# Altium footprint library 功率检测模块.PcbLib: 15 footprints
Each footprint in its own frame and in the unit in brackets; x right, y up, seen from the top. Pads: shape width x height; smd on the part's side, far side on the other; paste and mask are expansions set on the pad; w line width, h text height; cw(c..) or ccw(c..) is an arc to the next point about the centre after c.
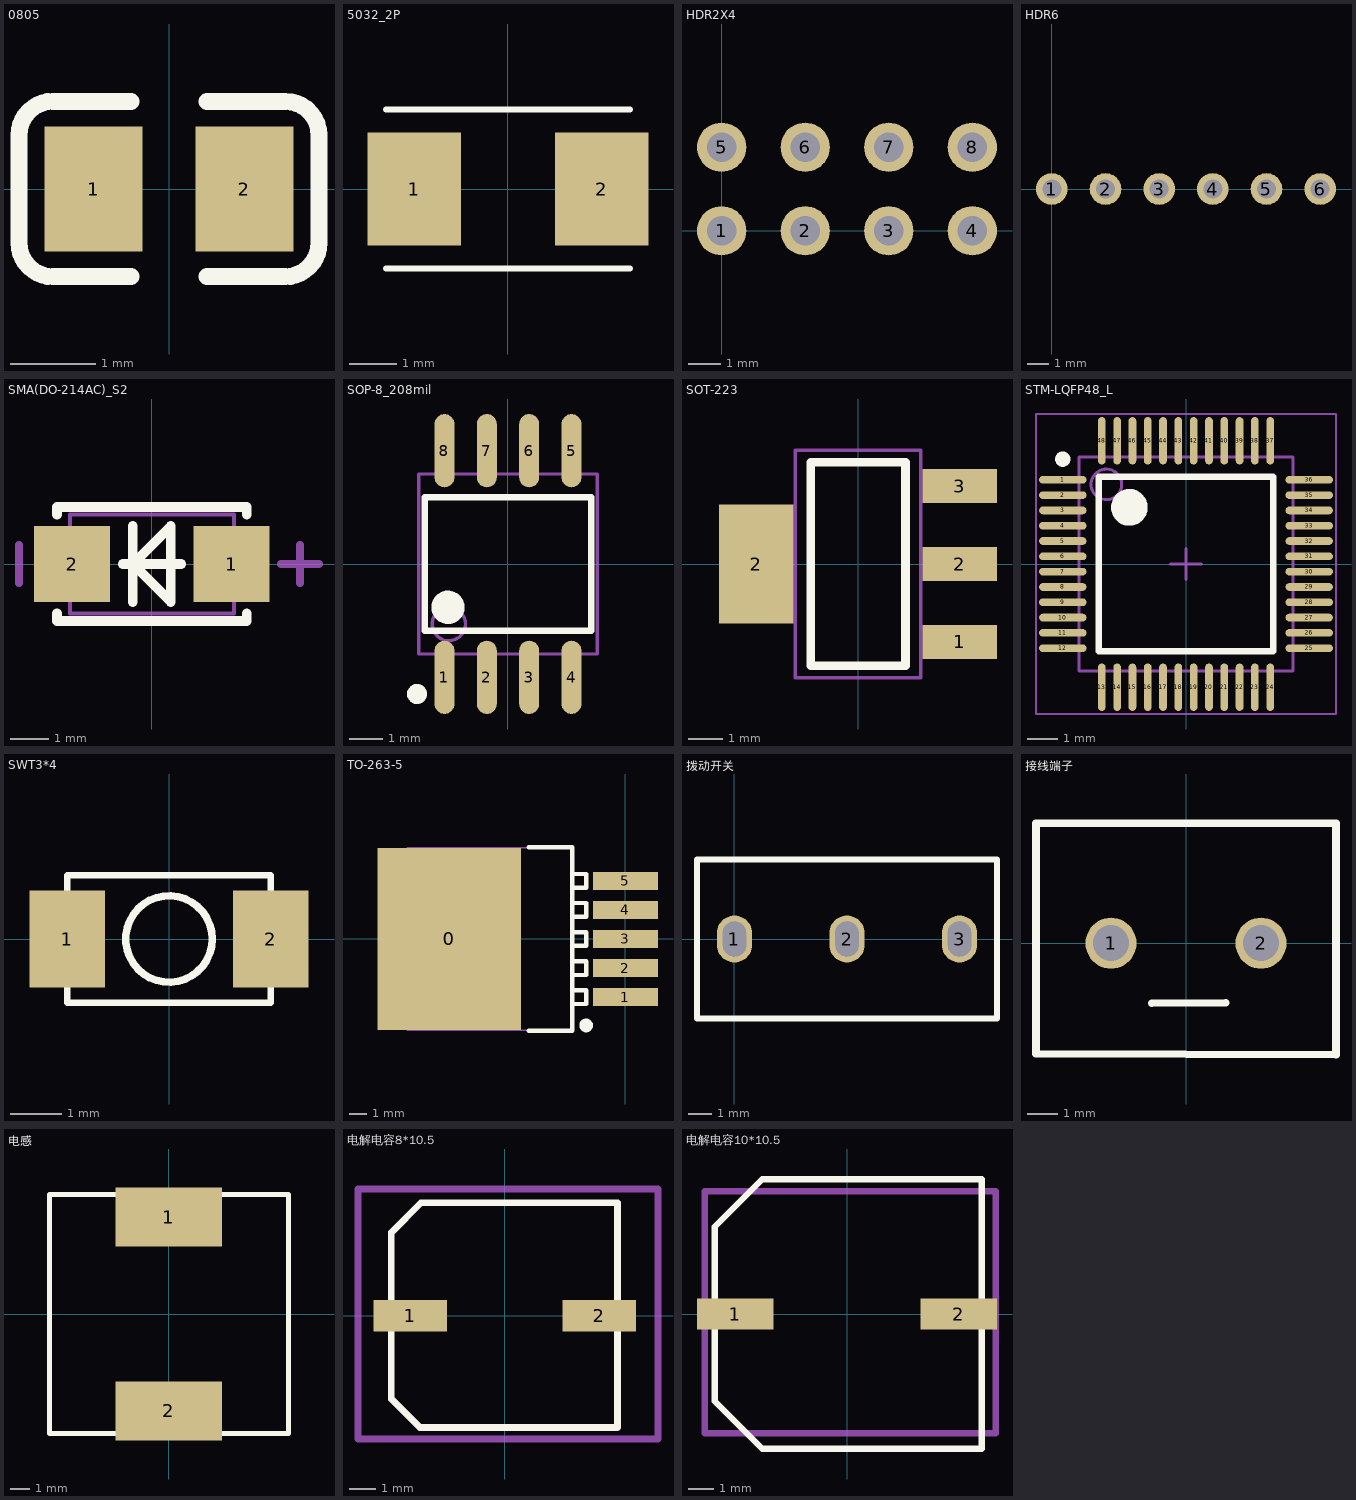
[diagram p0: the footprints below, top view; thin cyan lines are the x and y axes]

## 0805 [mm]
pads (2):
  rect 1.16x1.47 smd: 1(-0.89,0) 2(0.89,0)
Top Overlay:
  lines w0.2: -0.45,-1.035 -1.37,-1.035 cw(c-1.37,-0.635) -1.77,-0.635 -1.77,0.635 cw(c-1.37,0.635) -1.37,1.035 -0.45,1.035 ; 0.45,-1.035 1.37,-1.035 ccw(c1.37,-0.635) 1.77,-0.635 1.77,0.635 ccw(c1.37,0.635) 1.37,1.035 0.45,1.035
3D body "User Library-0805 SMD Capacitor.STEP": height 0.77, standoff -0.01, extent -0.999,-0.625 1.001,0.625

## 5032_2P [mm]
pads (2):
  rect 2x2.4 smd: 1(-2,0) 2(2,0)
Top Overlay:
  lines w0.127: -2.6,-1.7 2.6,-1.7 ; -2.6,1.7 2.6,1.7

## HDR2X4 [mm]
pads (8):
  round 1.5 hole 0.9: 1(0,0) 2(2.54,0) 3(5.08,0) 4(7.62,0) 5(0,2.54) 6(2.54,2.54) 7(5.08,2.54) 8(7.62,2.54)

## HDR6 [mm]
pads (6):
  round 1.5 hole 0.9: 1(0,0) 2(2.54,0) 3(5.08,0) 4(7.62,0) 5(10.16,0) 6(12.7,0)

## SMA(DO-214AC)_S2 [mm]
pads (2):
  rect 2x2 smd: 1(2.1,0) 2(-2.1,0)
Top Overlay:
  lines w0.254: -2.5,-1.3 -2.5,-1.5 2.5,-1.5 2.5,-1.3 ; -2.5,1.3 -2.5,1.5 2.5,1.5 2.5,1.3 ; -0.77,0 0.77,0 ; -0.5,-1 -0.5,1 ; -0.5,0 0.5,1 0.5,-1 -0.5,0
Mechanical 13:
  lines w0.1: -2.16,-1.3 -2.16,1.3 2.16,1.3 2.16,-1.3 -2.16,-1.3
Mechanical 15:
  lines w0.203: -3.5,-0.5 -3.5,0.5 ; 3.4,0 4.4,0 ; 3.9,-0.5 3.9,0.5

## SOP-8_208mil [mm]
pads (8):
  oval 0.6x2.2 smd: 1(-1.905,-3.4) 2(-0.635,-3.4) 3(0.635,-3.4) 4(1.905,-3.4) 5(1.905,3.4) 6(0.635,3.4) 7(-0.635,3.4) 8(-1.905,3.4)
Top Overlay:
  circle w0.3: c-2.73,-3.9 r0.15
  circle w0.5: c-1.8,-1.3 r0.25
  lines w0.2: -2.5,-2 -2.5,2 2.5,2 2.5,-2 -2.5,-2
Mechanical 13:
  circle w0.1: c-1.775,-1.8 r0.5
  lines w0.1: -2.675,-2.7 -2.675,2.7 2.675,2.7 2.675,-2.7 -2.675,-2.7

## SOT-223 [mm]
pads (4):
  rect 2.2x1 smd: 1(3,-2.3) 2(3,0) 3(3,2.3)
  rect 2.2x3.5 smd: 2(-3,0)
Top Overlay:
  lines w0.254: -1.4,-3 -1.4,3 1.4,3 1.4,-3 -1.4,-3
Mechanical 13:
  lines w0.1: -1.85,-3.35 1.85,-3.35 1.85,3.35 -1.85,3.35 -1.85,-3.35
3D body "TO-223.STEP": height 1.64, standoff -0.04, extent -3.49,-3.242 3.49,3.243

## STM-LQFP48_L [mm] "QFP, 48-Leads, Body 7x7mm, Pitch 0.5mm, IPC High Density"
height 1.6
pads (48):
  oval 1.55x0.25 smd: 1(-4.025,2.75) 2(-4.025,2.25) 3(-4.025,1.75) 4(-4.025,1.25) 5(-4.025,0.75) 6(-4.025,0.25) 7(-4.025,-0.25) 8(-4.025,-0.75) 9(-4.025,-1.25) 10(-4.025,-1.75) 11(-4.025,-2.25) 12(-4.025,-2.75) 25(4.025,-2.75) 26(4.025,-2.25) 27(4.025,-1.75) 28(4.025,-1.25) 29(4.025,-0.75) 30(4.025,-0.25) 31(4.025,0.25) 32(4.025,0.75) 33(4.025,1.25) 34(4.025,1.75) 35(4.025,2.25) 36(4.025,2.75)
  oval 0.25x1.55 smd: 13(-2.75,-4.025) 14(-2.25,-4.025) 15(-1.75,-4.025) 16(-1.25,-4.025) 17(-0.75,-4.025) 18(-0.25,-4.025) 19(0.25,-4.025) 20(0.75,-4.025) 21(1.25,-4.025) 22(1.75,-4.025) 23(2.25,-4.025) 24(2.75,-4.025) 37(2.75,4.025) 38(2.25,4.025) 39(1.75,4.025) 40(1.25,4.025) 41(0.75,4.025) 42(0.25,4.025) 43(-0.25,4.025) 44(-0.75,4.025) 45(-1.25,4.025) 46(-1.75,4.025) 47(-2.25,4.025) 48(-2.75,4.025)
Top Overlay:
  circle w0.6: c-1.85,1.85 r0.3
  circle w0.25: c-4.025,3.425 r0.125
  lines w0.2: -2.85,-2.85 2.85,-2.85 2.85,2.85 -2.85,2.85 -2.85,-2.85
Mechanical 13:
  circle w0.1: c-2.6,2.6 r0.5
  lines w0.1: -3.5,-3.5 3.5,-3.5 3.5,3.5 -3.5,3.5 -3.5,-3.5
Mechanical 15:
  lines w0.05: -4.9,-4.9 4.9,-4.9 4.9,4.9 -4.9,4.9 -4.9,-4.9
  lines w0.1: -0.5,0 0.5,0 ; 0,-0.5 0,0.5
3D body: height 1.6, standoff 0.05, extent -3.5,-3.5 3.5,3.5

## SWT3*4 [mm]
pads (2):
  rect 1.48x1.9 smd: 1(-2,0) 2(2,0)
Top Overlay:
  circle w0.15: c0,0 r0.85
  lines w0.127: -2,-1.25 2,-1.25 2,1.25 -2,1.25 -2,-1.25

## TO-263-5 [mm]
pads (6):
  rect 8.4x10.65 smd: 0(-10.3,0)
  rect 3.8x1.05 smd: 1(0,-3.4) 2(0,-1.7) 3(0,0) 4(0,1.7) 5(0,3.4)
Top Overlay:
  circle w0.4: c-2.3,-5.05 r0.2
  lines w0.254: -5.65,-5.35 -3.1,-5.35 -3.1,5.35 -5.65,5.35 ; -3.1,-3 -2.3,-3 -2.3,-3.8 -3,-3.8 ; -3.1,-1.3 -2.3,-1.3 -2.3,-2.1 -3,-2.1 ; -3.1,0.4 -2.3,0.4 -2.3,-0.4 -3,-0.4 ; -3.1,2.1 -2.3,2.1 -2.3,1.3 -3,1.3 ; -3.1,3.8 -2.3,3.8 -2.3,3 -3,3
Mechanical 13:
  lines w0.1: -12.75,-5.325 -12.75,5.325 -3.1,5.325 -3.1,-5.325 -12.75,-5.325

## 拨动开关 [mm]
pads (3):
  oval 1.5x2 hole 1 slot 1.5 at 91 deg: 1(0,0) 2(4.8,0) 3(9.6,0)
Top Overlay:
  lines w0.254: -1.6,-3.4 0,-3.4 11.2,-3.4 11.2,3.4 2.54,3.4 -1.6,3.4 -1.6,2.159 -1.6,0 -1.6,-3.353

## 接线端子 [mm]
pads (2):
  round 1.7 hole 1.2: 1(-2.5,0) 2(2.5,0)
Top Overlay:
  lines w0.254: -1.143,-2.007 1.321,-1.981 ; -5,-3.683 -5,4 5,4 5,-3.717 -5,-3.683

## 电感 [mm]
pads (2):
  rect 5.6x3.1 smd: 1(0,5.1) 2(0,-5.1)
Top Overlay:
  lines w0.254: -3.302,-6.3 6.3,-6.3 6.3,6.3 3.302,6.3 0,6.3 -6.278,6.3 -6.278,-3.199 -6.278,-6.3 0,-6.3

## 电解电容8*10.5 [mm]
pads (2):
  rect 2.8x1.2 smd: 1(-3.6,0) 2(3.6,0)
Top Overlay:
  lines w0.254: -4.318,-3.175 -3.229,-4.264 4.3,-4.264 4.3,4.3 -3.193,4.3 -4.318,3.175 -4.318,-3.175
Mechanical 13:
  lines w0.254: -5.588,-4.699 -5.588,4.826 5.842,4.826 5.842,-4.699 -5.588,-4.699

## 电解电容10*10.5 [mm]
pads (2):
  rect 3x1.2 smd: 1(-4.4,0) 2(4.4,0)
Top Overlay:
  lines w0.254: -5.2,-3.436 -5.2,-2.413 -5.2,2.286 -5.2,3.436 -3.336,5.3 5.3,5.3 5.3,-5.3 -3.336,-5.3 -5.2,-3.436
Mechanical 13:
  lines w0.254: -5.588,-4.699 -2.73,-4.699 2.984,-4.699 5.842,-4.699 5.842,4.826 -5.588,4.826 -5.588,-4.699